# Altium integrated library diodes_zener.IntLib: 21 symbols
Pins are listed as number, name and electrical type; pins without a type are passive.

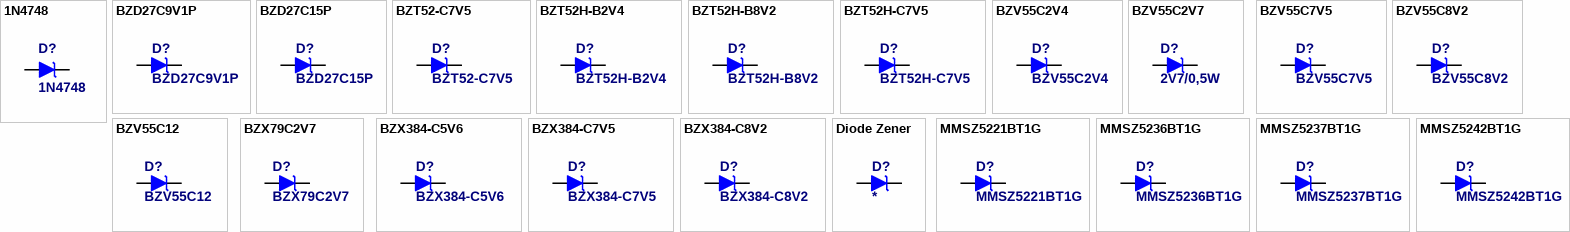
[diagram p0: symbols 1N4748 to MMSZ5242BT1G]

## 1N4748
designator D?
Zener Diode, 22V, 1,3W; Published: 26-Mar-2006; Supplier 1: TME; Supplier 2: Farnell; Supplier Part Number 1: 1.3W-22V; Supplier Part Number 2: 1704717
footprint DO41
pins: 1 A, 2 K

## BZD27C9V1P
designator D?
Zener Diode 9V1, 0.8W
footprint SMF
pins: 1 A, 2 K
1 alternate drawing of the same symbol

## BZD27C15P
designator D?
Zener Diode 15V, 0,8W (TME BZD27C15P)
footprint SMF
pins: 1 A, 2 K
1 alternate drawing of the same symbol

## BZT52-C7V5
designator D?
Zener Diode 7V5, 500mW; Supplier 1: Farnell; Supplier Part Number 1: 2077940
footprint SOD123
pins: 1 A, 2 K
1 alternate drawing of the same symbol

## BZT52H-B2V4
designator D?
Zener Diode 2V4, 375mW
footprint SOD123F
pins: 1 A, 2 K
1 alternate drawing of the same symbol

## BZT52H-B8V2
designator D?
Zener Diode 8V2, 375mW; Supplier 1: Farnell; Supplier Part Number 1: 2069455
footprint SOD123F
pins: 1 A, 2 K
1 alternate drawing of the same symbol

## BZT52H-C7V5
designator D?
Zener Diode 7V5, 375mW; Supplier 1: Farnell; Supplier 2: Farnell; Supplier Part Number 1: 1907630RL; Supplier Part Number 2: 1907630
footprint SOD123F
pins: 1 A, 2 K
1 alternate drawing of the same symbol

## BZV55C2V4
designator D?
Zener Diode 2V4, 0,5W
footprint MiniMELF
pins: 1 A, 2 K
1 alternate drawing of the same symbol

## BZV55C2V7
designator D?, comment 2V7/0,5W
Zener Diode 2V7, 0,5W
footprint MiniMELF
pins: 1 A, 2 K
1 alternate drawing of the same symbol

## BZV55C7V5
designator D?
Zener Diode 8V2, 0,5W
footprint MiniMELF
pins: 1 A, 2 K
1 alternate drawing of the same symbol

## BZV55C8V2
designator D?
Zener Diode 8V2, 0,5W
footprint MiniMELF
pins: 1 A, 2 K
1 alternate drawing of the same symbol

## BZV55C12
designator D?
Zener Diode 12V, 0,5W; Supplier 1: TME; Supplier 2: Farnell; Supplier Part Number 1: ZSMD-12V; Supplier Part Number 2: 1097185
footprint MiniMELF
pins: 1 A, 2 K
1 alternate drawing of the same symbol

## BZX79C2V7
designator D?
Zener Diode 0,5W, 2V7; Supplier 1: TME; Supplier 2: Farnell; Supplier Part Number 1: 0.5W-2V7; Supplier Part Number 2: 1097224
footprint DO35
pins: 1 A, 2 K
1 alternate drawing of the same symbol

## BZX384-C5V6
designator D?
Zener Diode 5V6, 300mW; Supplier 1: Farnell; Supplier 2: Farnell; Supplier 3: Farnell; Supplier 4: Farnell; Supplier Part Number 1: 8735743; Supplier Part Number 2: 1431204; Supplier Part Number 3: 2317724; Supplier Part Number 4: 2439244
footprint SOD323 (JAITA Marking: SC76 / SC-76)
pins: 1 A, 2 K
1 alternate drawing of the same symbol

## BZX384-C7V5
designator D?
Zener Diode 7V5, 300mW; Supplier 1: Farnell; Supplier 2: Farnell; Supplier 3: Farnell; Supplier Part Number 1: 8735808; Supplier Part Number 2: 2439250; Supplier Part Number 3: 8735808RL
footprint SOD323 (JAITA Marking: SC76 / SC-76)
pins: 1 A, 2 K
1 alternate drawing of the same symbol

## BZX384-C8V2
designator D?
Zener Diode 8V2, 300mW; Supplier 1: Farnell; Supplier 2: Farnell; Supplier 3: Farnell; Supplier Part Number 1: 2439251; Supplier Part Number 2: 8735816RL; Supplier Part Number 3: 8735816
footprint SOD323 (JAITA Marking: SC76 / SC-76)
pins: 1 A, 2 K
1 alternate drawing of the same symbol

## Diode Zener
designator D?
Zener Diode
footprint MINIMELF
footprint __SOD123
pins: 1 A, 2 K
1 alternate drawing of the same symbol

## MMSZ5221BT1G
designator D?
Zener Diode 2V4, 0,5W
footprint SOD123 (SC76)
pins: 1 A, 2 K
1 alternate drawing of the same symbol

## MMSZ5236BT1G
designator D?
Zener Diode 7V5, 0,5W; Supplier 1: Farnell; Supplier 2: Farnell; Supplier 3: Farnell; Supplier 4: Farnell; Supplier 5: Farnell; Supplier 6: Farnell; Supplier Part Number 1: 1431278; Supplier Part Number 2: 1889809; Supplier Part Number 3: 2441490; Supplier Part Number 4: 2061473; Supplier Part Number 5: 1431278RL; Supplier Part Number 6: 2370830
footprint SOD123 (SC76)
pins: 1 A, 2 K
1 alternate drawing of the same symbol

## MMSZ5237BT1G
designator D?
Zener Diode 8V2, 0,5W; Supplier 1: Farnell; Supplier Part Number 1: 1431279; Supplier 2: Farnell; Supplier 3: Farnell; Supplier 4: Farnell; Supplier Part Number 2: 2441491; Supplier Part Number 3: 1900038; Supplier Part Number 4: 1431279RL
footprint SOD123 (SC76)
pins: 1 A, 2 K
1 alternate drawing of the same symbol

## MMSZ5242BT1G
designator D?
Zener Diode 12V, 0,5W; Supplier 1: Farnell; Supplier 2: Farnell; Supplier 3: Farnell; Supplier 4: Farnell; Supplier 5: Farnell; Supplier Part Number 1: 1431281RL; Supplier Part Number 2: 1466559; Supplier Part Number 3: 1431281; Supplier Part Number 4: 1674476; Supplier Part Number 5: 2370832
footprint SOD123 (SC76)
pins: 1 A, 2 K
1 alternate drawing of the same symbol